# EAGLE library part MPU-6050 (library Board-Ibnu)
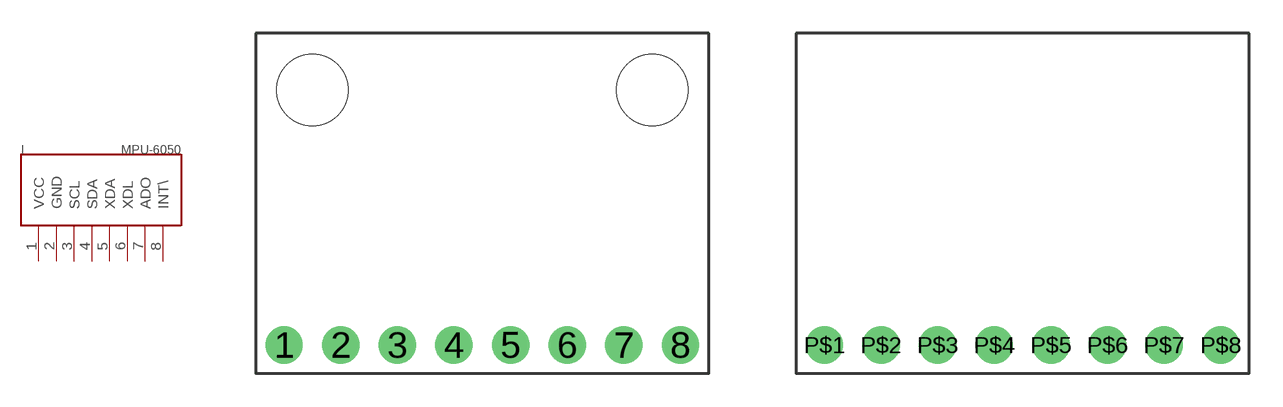
[diagram p4: symbol with the pads of MPU-6050; footprints MPU-6050, MPU-6050-NO_HOLES]

Designator prefix I

## MPU-6050-HOLES  [MPU-6050]
1  VCC
2  GND
3  SCL
4  SDA
5  XDA
6  XDL
7  ADO
8  INT\

## MPU-6050-NO_HOLES  [MPU-6050-NO_HOLES]
P$1  VCC
P$2  GND
P$3  SCL
P$4  SDA
P$5  XDA
P$6  XDL
P$7  ADO
P$8  INT\

## Footprint MPU-6050 (pad centres in mm)
drill 0.9 pad 1.676: 1 -8.89,-6.35; 2 -6.35,-6.35; 3 -3.81,-6.35; 4 -1.27,-6.35; 5 1.27,-6.35; 6 3.81,-6.35; 7 6.35,-6.35; 8 8.89,-6.35
hole 3.2 at -7.62,5.08
hole 3.2 at 7.62,5.08

## Footprint MPU-6050-NO_HOLES (pad centres in mm)
drill 0.9 pad 1.676: P$1 -8.89,-6.35; P$2 -6.35,-6.35; P$3 -3.81,-6.35; P$4 -1.27,-6.35; P$5 1.27,-6.35; P$6 3.81,-6.35; P$7 6.35,-6.35; P$8 8.89,-6.35